# Altium footprint library SC_TSOP34XXX.PcbLib: 1 footprints
Each footprint in its own frame and in the unit in brackets; x right, y up, seen from the top. Pads: shape width x height; smd on the part's side, far side on the other; paste and mask are expansions set on the pad; w line width, h text height; cw(c..) or ccw(c..) is an arc to the next point about the centre after c.
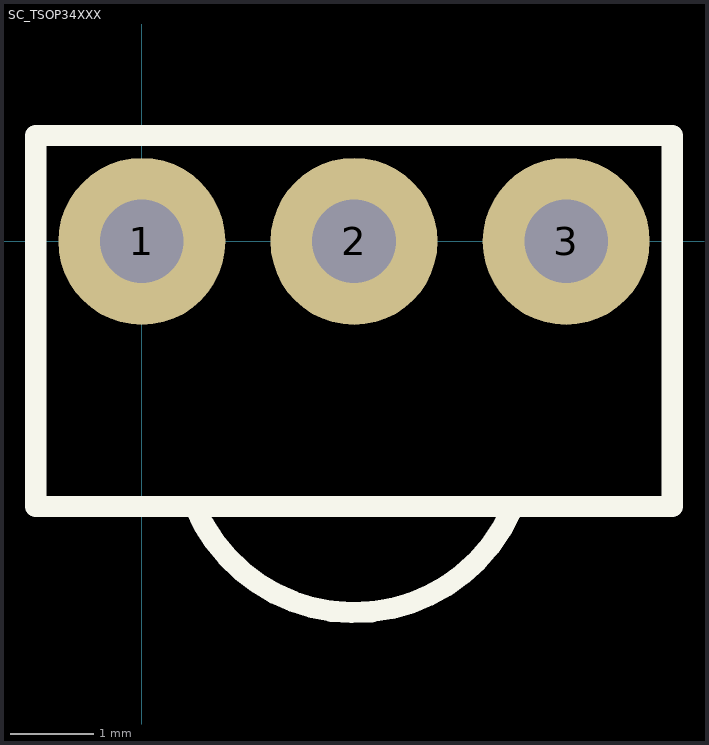
[diagram p0: the footprint, top view; thin cyan lines are the x and y axes]

## SC_TSOP34XXX [mm] "Vishay, IR Remote receiver"
height 8.25
pads (3):
  round 2 hole 1: 1(0,0) 2(2.54,0) 3(5.08,0)
Top Overlay:
  lines w0.254: 0.635,-3.175 ccw(c2.54,-2.381) 4.422,-3.228 ; -1.27,-3.175 -1.27,1.27 6.35,1.27 6.35,-3.175 -1.27,-3.175
3D body: height 10.25, standoff -5.75, extent -0.46,-4.05 5.54,1.5